# EAGLE library part LTC1966_MODULE (library net_modules)
LTC1966 Converter module Accurate Micropower Delta Sigma RMS to DC Converter
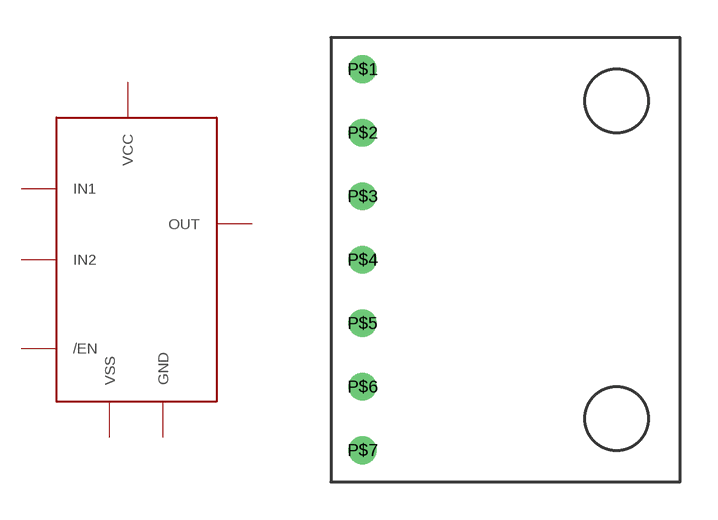
[diagram p0: symbol with the pads of LTC1966_MODULE; footprint LTC1966_MODULE]

Designator prefix -

## LTC1966_MODULE  [LTC1966_MODULE]
P$1  VCC
P$2  GND
P$3  VSS
P$4  IN1
P$5  IN2
P$6  OUT
P$7  /EN

## Footprint LTC1966_MODULE (pad centres in mm)
drill 0.6: P$1 -15.24,7.62; P$2 -15.24,5.08; P$3 -15.24,2.54; P$4 -15.24,0; P$5 -15.24,-2.54; P$6 -15.24,-5.08; P$7 -15.24,-7.62